# Altium schematic symbol library Mosquito.SchLib: 2 symbols
Pins are listed as number, name and electrical type; pins without a type are passive.

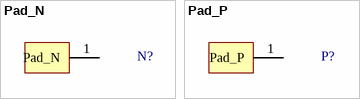
[diagram p0: symbols Pad_N to Pad_P]

## Pad_N
designator N?  (value not drawn)
footprint Pad
pins: 1 Pad_N

## Pad_P
designator P?  (value not drawn)
footprint Pad
pins: 1 Pad_P